# Altium footprint library Lesson_04.PcbLib: 6 footprints
Each footprint in its own frame and in the unit in brackets; x right, y up, seen from the top. Pads: shape width x height; smd on the part's side, far side on the other; paste and mask are expansions set on the pad; w line width, h text height; cw(c..) or ccw(c..) is an arc to the next point about the centre after c.
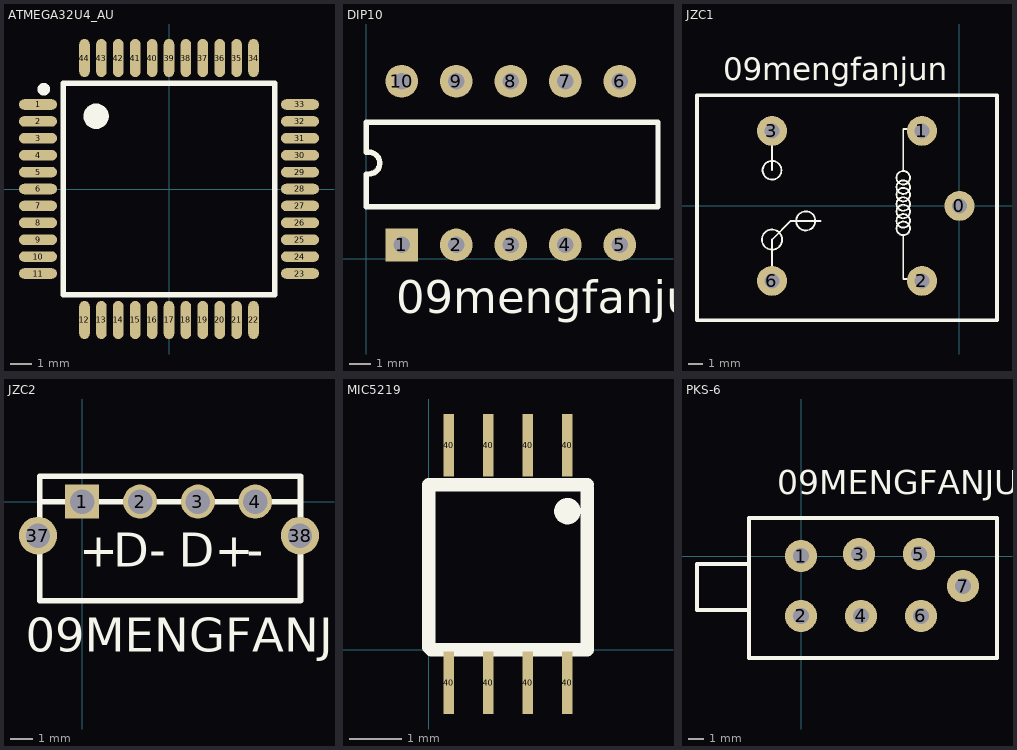
[diagram p0: the footprints below, top view; thin cyan lines are the x and y axes]

## ATMEGA32U4_AU [mm]
pads (44):
  oval 1.8x0.5 smd: 1(-6.2,4) 2(-6.2,3.2) 3(-6.2,2.4) 4(-6.2,1.6) 5(-6.2,0.8) 6(-6.2,0) 7(-6.2,-0.8) 8(-6.2,-1.6) 9(-6.2,-2.4) 10(-6.2,-3.2) 11(-6.2,-4) 23(6.2,-4) 24(6.2,-3.2) 25(6.2,-2.4) 26(6.2,-1.6) 27(6.2,-0.8) 28(6.2,0) 29(6.2,0.8) 30(6.2,1.6) 31(6.2,2.4) 32(6.2,3.2) 33(6.2,4)
  oval 0.5x1.8 smd: 12(-4,-6.2) 13(-3.2,-6.2) 14(-2.4,-6.2) 15(-1.6,-6.2) 16(-0.8,-6.2) 17(0,-6.2) 18(0.8,-6.2) 19(1.6,-6.2) 20(2.4,-6.2) 21(3.2,-6.2) 22(4,-6.2) 34(4,6.2) 35(3.2,6.2) 36(2.4,6.2) 37(1.6,6.2) 38(0.8,6.2) 39(0,6.2) 40(-0.8,6.2) 41(-1.6,6.2) 42(-2.4,6.2) 43(-3.2,6.2) 44(-4,6.2)
Top Overlay:
  lines w0.254: -5,-5 -5,5 5,5 5,-5 -5,-5
  lines w0.3: -5.776,4.722 cw(c-5.926,4.723) -5.776,4.724
  lines w0.6: -3.15,3.444 cw(c-3.45,3.442) -3.15,3.449

## DIP10 [mil]
pads (10):
  rect 60x60 hole 30: 1(65,25)
  round 60 hole 30: 2(165,25) 3(265,25) 4(365,25) 5(465,25) 6(465,325) 7(365,325) 8(265,325) 9(165,325) 10(65,325)
Top Overlay:
  lines w10: 0,95 0,155 ; 0,195 0,250 535,250 535,95 5,95 ; 5,155 ccw(c5,175) 5,195
  text "09mengfanjun" at 55,-100 h60

## JZC1 [mil]
pads (5):
  round 80 hole 40: 0(0,0) 1(-100,200) 2(-100,-200) 3(-500,200) 6(-500,-200)
Top Overlay:
  circle w5: c-150,-60 r18.03
  circle w5: c-150,-40 r18.03
  circle w5: c-150,-15 r18.03
  circle w5: c-150,5 r18.03
  circle w5: c-150,30 r18.03
  circle w5: c-150,50 r18.03
  circle w5: c-150,75 r18.03
  circle w5: c-410,-40 r25.5
  circle w5: c-500,-90 r26.93
  circle w5: c-500,95 r25
  lines w5: -500,-200 -500,-90 -450,-40 -370,-40 ; -500,95 -500,200 ; -150,-80 -150,-195 -105,-195 ; -150,95 -150,205 -105,205
  lines w10: -700,-305 100,-305 100,295 -700,295 -700,-305
  text "09mengfanjun" at -630,335 h60

## JZC2 [mil]
pads (6):
  rect 60x60 hole 43: 1(0,0)
  round 60 hole 43: 2(102,0) 3(204,0) 4(305,0)
  round 67 hole 43: 37(-78,-60) 38(384,-60)
Top Overlay:
  lines w10: -75,0 385,0 ; -75,-175 385,-175 385,45 -75,45 -75,-175
  text "+" at -5,-115 h60
  text "-" at 290,-115 h60
  text "D-" at 55,-115 h60
  text "D+" at 170,-115 h60
  text "09MENGFANJUN" at -100,-265 h60

## MIC5219 [mm]
pads (8):
  rect 0.2x1.2 smd: 40(0.381,-0.635) 40(0.381,3.937) 40(1.143,-0.635) 40(1.143,3.937) 40(1.905,-0.635) 40(1.905,3.937) 40(2.667,-0.635) 40(2.667,3.937)
Top Overlay:
  circle w0.254: c2.667,2.667 r0.127
  lines w0.254: 0,3.148 0,0.048 0.048,0 3.048,0 3.048,3.1 ; 0,3.175 3.048,3.175

## PKS-6 [mil]
pads (7):
  round 80 hole 40: 1(0,0) 2(0,-150) 3(145,5) 4(150,-150) 5(295,5) 6(300,-150) 7(405,-75)
Top Overlay:
  lines w10: -130,-135 -260,-135 -260,-20 -130,-20 ; -130,-255 -130,95 490,95 490,-255 -130,-255
  text "09MENGFANJUN" at -60,155 h60